# Altium footprint library Miscellaneous Devices.PcbLib: 154 footprints (part 7 of 10)
Each footprint in its own frame and in the unit in brackets; x right, y up, seen from the top. Pads: shape width x height; smd on the part's side, far side on the other; paste and mask are expansions set on the pad; w line width, h text height; cw(c..) or ccw(c..) is an arc to the next point about the centre after c.
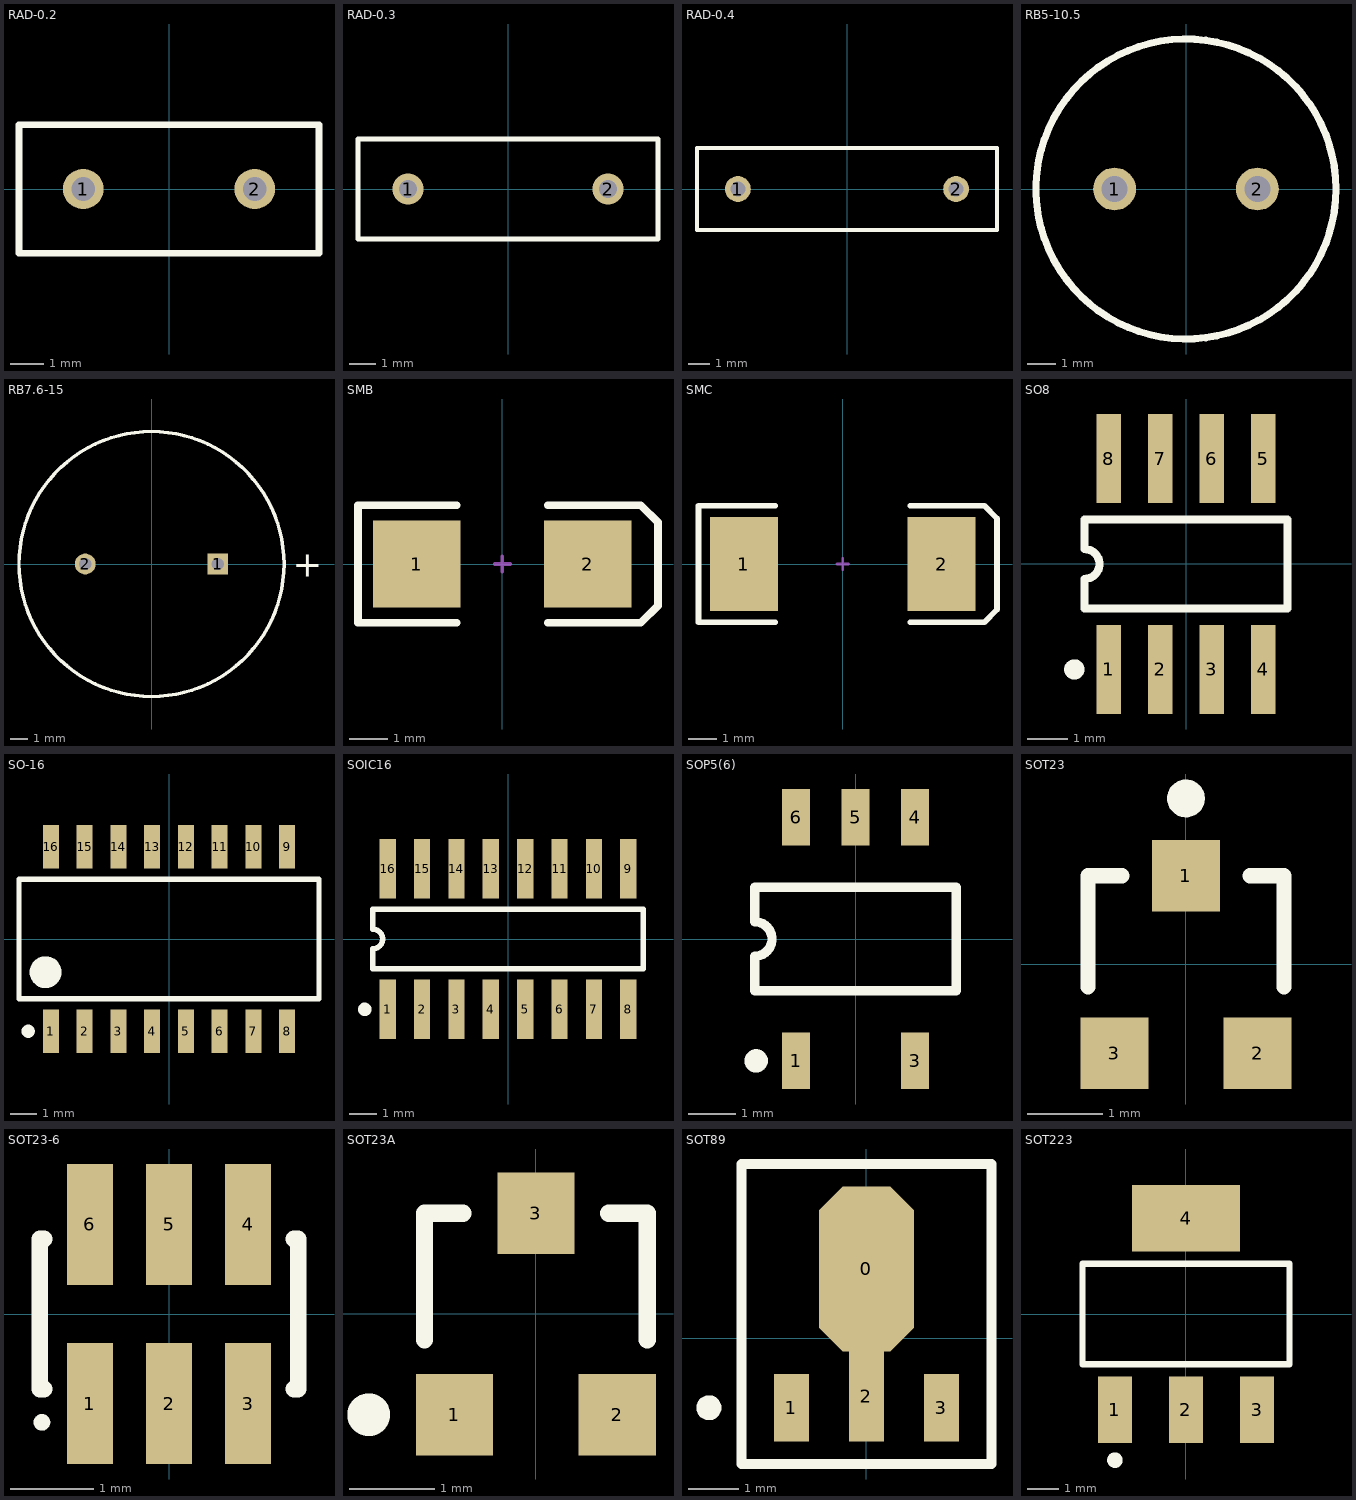
[diagram p6: the footprints below, top view; thin cyan lines are the x and y axes]

## RAD-0.2 [mm] "Jumper Wire; 2 Leads"
pads (2):
  round 1.2 hole 0.7: 1(-2.54,0) 2(2.54,0)
Top Overlay:
  lines w0.2: -4.445,-1.905 -4.445,1.905 4.445,1.905 4.445,-1.905 -4.445,-1.905

## RAD-0.3 [mm] "Capacitor; 2 Leads"
height 6
pads (2):
  round 1.2 hole 0.7: 1(-3.81,0) 2(3.81,0)
Top Overlay:
  lines w0.2: -5.715,-1.905 -5.715,1.905 5.715,1.905 5.715,-1.905 -5.715,-1.905

## RAD-0.4 [mm] "Servo Motor; 2 Leads"
pads (2):
  round 1.2 hole 0.7: 1(-5.08,0) 2(5.08,0)
Top Overlay:
  lines w0.2: -6.985,-1.905 6.985,-1.905 6.985,1.905 -6.985,1.905 -6.985,-1.905

## RB5-10.5 [mm] "Motor, General Kind; 2 Leads"
pads (2):
  round 1.5 hole 0.9: 1(-2.5,0) 2(2.5,0)
Top Overlay:
  circle w0.25: c0,0 r5.25
Mechanical 1:
  circle w0.02: c0,0 r5.25

## RB7.6-15 [mm] "Polarized Capacitor (Radial); 2 Leads"
pads (2):
  rect 1.2x1.2 hole 0.7: 1(3.81,0)
  round 1.2 hole 0.7: 2(-3.81,0)
Top Overlay:
  circle w0.2: c0,0 r7.62
  text "+" at 8.132,-0.737 h1.5

## SMB [mm] "DO-214-AA/SMB; 2 C-Bend Leads; Body 5.3 x 3.6 mm, inc. leads (LxW)"
height 2.54
pads (2):
  rect 2.3x2.3 smd: 1(-2.25,0) 2(2.25,0)
Top Overlay:
  lines w0.2: -1.2,-1.55 -3.8,-1.55 -3.8,1.55 -1.2,1.55 ; 1.2,-1.55 3.65,-1.55 4.1,-1.1 4.1,1.1 3.65,1.55 1.2,1.55
Mechanical 1:
  lines w0.1: -0.2,0 0.2,0 ; 0,-0.2 0,0.2

## SMC [mm] "DO-214-AB/SMC; 2 C-Bend Leads; Body 7.9 x 5.9 mm, inc. leads (LxW)"
height 2.65
pads (2):
  rect 2.4x3.3 smd: 1(-3.475,0) 2(3.475,0)
Top Overlay:
  lines w0.2: -2.375,-2.05 -5.075,-2.05 -5.075,2.05 -2.375,2.05 ; 2.375,-2.05 4.975,-2.05 5.425,-1.6 5.425,1.6 4.975,2.055 ; 2.375,2.05 4.975,2.05
Mechanical 1:
  lines w0.1: -0.2,0 0.2,0 ; 0,-0.2 0,0.2

## SO8 [mm] "Small Outline; 8 Leads; Body Width 3.9 mm; Pitch 1.27 mm"
height 1.75
pads (8):
  rect 0.6x2.2 smd: 1(-1.905,-2.6) 2(-0.635,-2.6) 3(0.635,-2.6) 4(1.905,-2.6) 5(1.905,2.6) 6(0.635,2.6) 7(-0.635,2.6) 8(-1.905,2.6)
Top Overlay:
  circle w0.25: c-2.755,-2.6 r0.125
  lines w0.2: -2.5,-1.1 2.5,-1.1 2.5,1.1 -2.5,1.1 -2.5,0.367 cw(c-2.5,0) -2.5,-0.367 -2.5,-1.1

## SO-16 [mm] "Small Outline; 16 Leads; Body Width 5.6 mm; Pitch 1.27 mm"
height 2.2
pads (16):
  rect 0.6x1.65 smd: 1(-4.445,-3.475) 2(-3.175,-3.475) 3(-1.905,-3.475) 4(-0.635,-3.475) 5(0.635,-3.475) 6(1.905,-3.475) 7(3.175,-3.475) 8(4.445,-3.475) 9(4.445,3.475) 10(3.175,3.475) 11(1.905,3.475) 12(0.635,3.475) 13(-0.635,3.475) 14(-1.905,3.475) 15(-3.175,3.475) 16(-4.445,3.475)
Top Overlay:
  circle w0.6: c-4.65,-1.25 r0.3
  circle w0.25: c-5.305,-3.475 r0.125
  lines w0.2: -5.65,-2.25 5.65,-2.25 5.65,2.25 -5.65,2.25 -5.65,-0.635 -5.65,-2.25

## SOIC16 [mm] "Small Outline; 16 Leads; Body Width 3.9 mm; Pitch 1.27 mm"
height 1.75
pads (16):
  rect 0.6x2.2 smd: 1(-4.445,-2.6) 2(-3.175,-2.6) 3(-1.905,-2.6) 4(-0.635,-2.6) 5(0.635,-2.6) 6(1.905,-2.6) 7(3.175,-2.6) 8(4.445,-2.6) 9(4.445,2.6) 10(3.175,2.6) 11(1.905,2.6) 12(0.635,2.6) 13(-0.635,2.6) 14(-1.905,2.6) 15(-3.175,2.6) 16(-4.445,2.6)
Top Overlay:
  circle w0.25: c-5.295,-2.6 r0.125
  lines w0.2: -5,-1.1 5,-1.1 5,1.1 -5,1.1 -5,0.367 cw(c-5,0) -5,-0.367 -5,-1.1

## SOP5(6) [mm] "Small Outline; 6 Leads (1 Absent); Body Width 4.4 mm; Pitch 1.27 mm"
height 2.4
pads (5):
  rect 0.6x1.2 smd: 1(-1.27,-2.6) 3(1.27,-2.6) 4(1.27,2.6) 5(0,2.6) 6(-1.27,2.6)
Top Overlay:
  circle w0.25: c-2.12,-2.6 r0.125
  lines w0.2: -2.15,-1.1 -2.15,-0.367 ccw(c-2.15,0) -2.15,0.367 -2.15,1.1 2.15,1.1 2.15,-1.1 -2.15,-1.1

## SOT23 [mm] "SOT-23; 3 Leads; Body 3.1 x 2.5 mm, inc. leads (LxW max), Alternate Lead Configuration"
height 1.1
pads (3):
  rect 0.9x0.95 smd: 1(0,1.175) 2(0.95,-1.175) 3(-0.95,-1.175)
Top Overlay:
  circle w0.25: c0,2.2 r0.125
  lines w0.2: -1.3,-0.3 -1.3,1.175 -0.85,1.175 ; 0.85,1.175 1.3,1.175 1.3,-0.3

## SOT23-6 [mm] "SOT-23/SC-74A; 5 Leads; Body 3.1 x 3 mm, inc. leads (LxW max)"
height 1.45
pads (6):
  rect 0.55x1.45 smd: 1(-0.95,-1.075) 2(0,-1.075) 3(0.95,-1.075) 4(0.95,1.075) 5(0,1.075) 6(-0.95,1.075)
Top Overlay:
  circle w0.1: c-1.525,-1.3 r0.05
  lines w0.2: -1.5,-0.9 -1.55,-0.9 -1.55,0.9 -1.5,0.9 ; 1.5,-0.9 1.55,-0.9 1.55,0.9 1.5,0.9

## SOT23A [mm] "SOT-23; 3 Leads; Body 3.0 x 2.5 mm, inc. leads (LxW max)"
height 1.2
pads (3):
  rect 0.9x0.95 smd: 1(-0.95,-1.175) 2(0.95,-1.175) 3(0,1.175)
Top Overlay:
  circle w0.25: c-1.95,-1.175 r0.125
  lines w0.2: -1.3,-0.3 -1.3,1.175 -0.85,1.175 ; 0.85,1.175 1.3,1.175 1.3,-0.3

## SOT89 [mm] "SOT-89; Body 4.6 x 4.25 mm, inc. leads (LxW max)"
height 1.6
pads (4):
  oct 1.9x3.3 smd: 0(0,1.388)
  rect 0.7x1.35 smd: 1(-1.5,-1.388) 3(1.5,-1.388)
  rect 0.7x1.8 smd: 2(0,-1.162)
Top Overlay:
  circle w0.25: c-3.15,-1.388 r0.125
  lines w0.2: -2.5,-2.512 -2.5,3.487 2.5,3.487 2.5,-2.512 -2.5,-2.512

## SOT223 [mm] "SOT-223/SC-73; 4 Leads; Body 6.7 x 7.3 mm, inc. leads (LxW max)"
height 1.8
pads (4):
  rect 1.1x2.15 smd: 1(-2.3,-3.1) 2(0,-3.1) 3(2.3,-3.1)
  rect 3.5x2.15 smd: 4(0,3.1)
Top Overlay:
  circle w0.25: c-2.3,-4.725 r0.125
  lines w0.2: -3.35,-1.625 3.35,-1.625 3.35,1.625 -3.35,1.625 -3.35,-1.625